# EAGLE library part UMH9NFHATN (library micromouse)
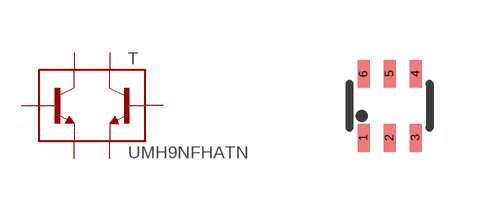
[diagram p3: symbol with the pads of SOT363_INFINEON; footprint SOT363_INFINEON]

Designator prefix T

## UMH9NFHATN  [SOT363_INFINEON]
1  E1  pas
2  B1  pas
3  C2  pas
4  E2  pas
5  B2  pas
6  C1  pas

## Footprint SOT363_INFINEON (pad centres in mm)
Small Outline Transistor; 6 leads Reflow soldering INFINEON, www.infineon.com/cmc_upload/0/000/010/257/eh_db_5b.pdf
smd 0.3 x 0.7: 1 -0.65,-0.8; 2 0,-0.8; 3 0.65,-0.8; 4 0.65,0.8; 5 0,0.8; 6 -0.65,0.8